# EAGLE library part ELECTRIC_IMP (library SparkFun-RF)
Electric Imp SD Socket The Electric Imp provides an easy, integrated way to connect almost any hardware device both to other devices and to internet services. It’s more than just a WiFi card, or even a WiFi module with processing built in - it’s an integrated platform that deals with the drudgery of connectivity, allowing you to concentrate on the application instead of the mechanics. This device matches the Electric Imp <https://www.sparkfun.com/products/11395> pinout to a 4UCONN SD MMC connector. The 4UCONN part number for the connector is 19646 <http://www.4uconnector.com/online/Itemadrawing.asp?fldseries=19646&seriesno_a=12>. SparkFun Products: Electric Imp Breakout <https://www.sparkfun.com/products/12886> (WRL-12886) SparkFun Electric Imp Shield <https://www.sparkfun.com/products/12887> (WRL-12887)
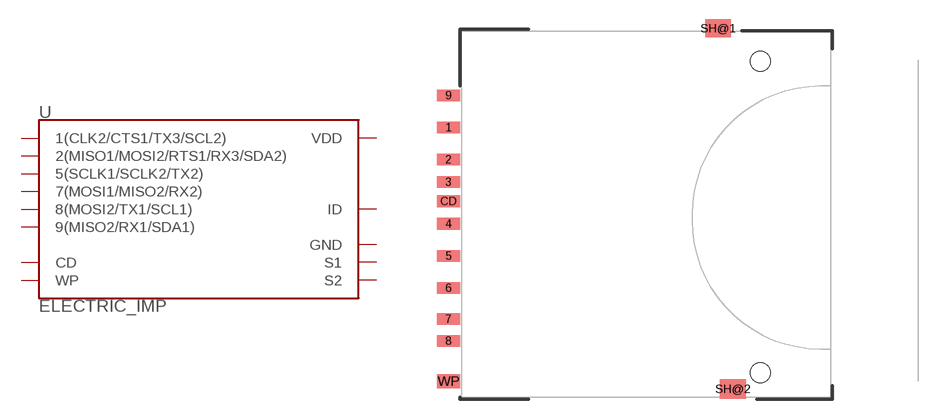
[diagram p16: symbol with the pads of SD-CARD; footprint SD-CARD]

Designator prefix U

## ELECTRIC_IMP (PROD_ID: CONN-11976)  [SD-CARD]
1  1(CLK2/CTS1/TX3/SCL2)
2  2(MISO1/MOSI2/RTS1/RX3/SDA2)
3  GND
4  VDD
5  5(SCLK1/SCLK2/TX2)
6  ID
7  7(MOSI1/MISO2/RX2)
8  8(MOSI2/TX1/SCL1)
9  9(MISO2/RX1/SDA1)
CD  CD
SH@1  S1
SH@2  S2
WP  WP

## Footprint SD-CARD (pad centres in mm)
SD Card Socket The 4UCONN part number is 19646 <http://www.4uconnector.com/online/Itemadrawing.asp?fldseries=19646&seriesno_a=12>. See this part in action on the Electric Imp Breakout <https://www.sparkfun.com/products/11400>.
smd 1.8 x 0.9: 1 -1,6.77; 2 -1,4.27; 3 -1,2.52; 4 -1,-0.73; 5 -1,-3.23; 6 -1,-5.73; 7 -1,-8.15; 8 -1,-9.85; 9 -1,9.27; CD -1,1.02
smd 2 x 1.4: SH@1 20,14.496
smd 2 x 1.527: SH@2 21.15,-13.589
smd 1.8 x 1.1: WP -1,-13
hole 1.55 at 23.3,11.94
hole 1.55 at 23.3,-12.32